# Altium footprint library Tray2.PcbLib: 104 footprints (part 1 of 7)
Each footprint in its own frame and in the unit in brackets; x right, y up, seen from the top. Pads: shape width x height; smd on the part's side, far side on the other; paste and mask are expansions set on the pad; w line width, h text height; cw(c..) or ccw(c..) is an arc to the next point about the centre after c.
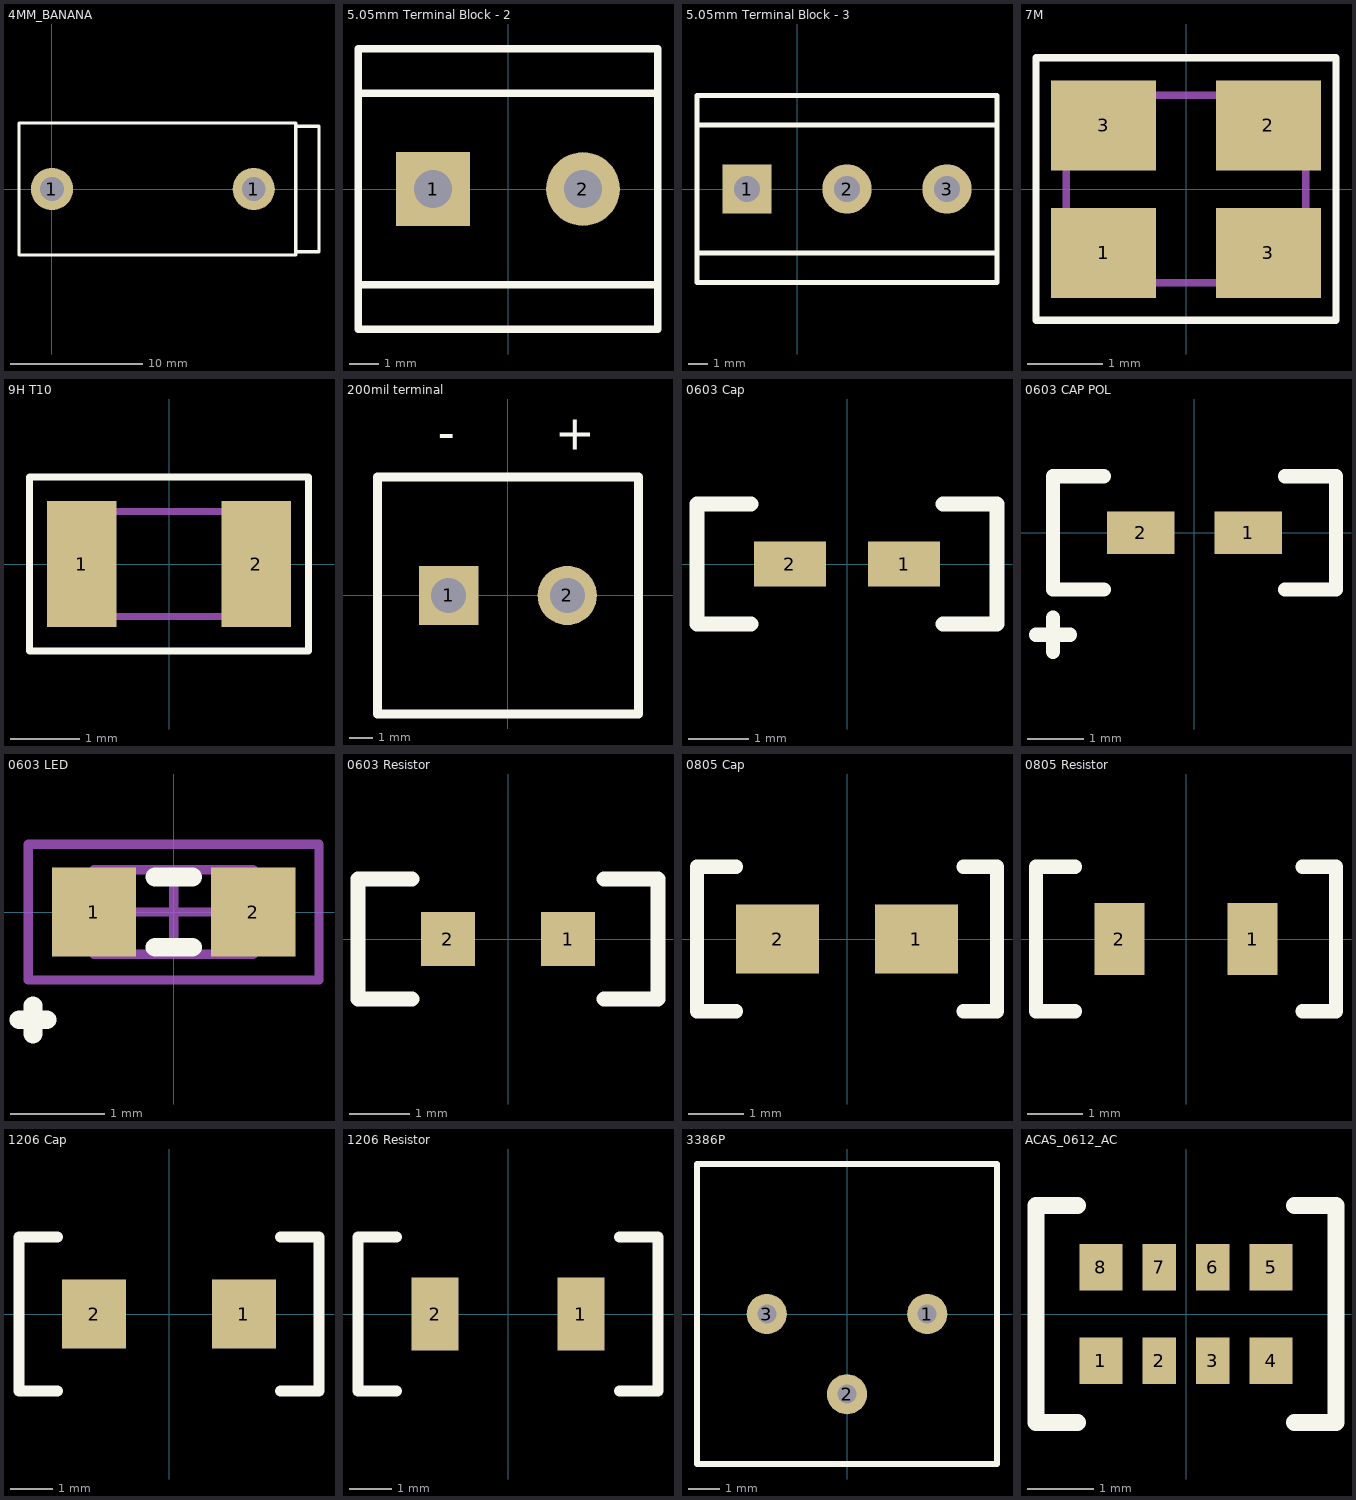
[diagram p0: the footprints below, top view; thin cyan lines are the x and y axes]

## 4MM_BANANA [mm] "DELTRON 571-0x00"
height 12.2
pads (2):
  round 3.2 hole 1.8: 1(0,0) 1(15.3,0)
Top Overlay:
  lines w0.254: 18.5,-4.75 20.25,-4.75 20.25,4.75 18.5,4.75 ; -2.5,-5 -2.5,5 17.5,5 18.5,5 18.5,-5 17.5,-5 -2.5,-5

## 5.05mm Terminal Block - 2 [mm]
pads (2):
  rect 2.5x2.5 hole 1.3: 1(-2.54,0)
  round 2.5 hole 1.3: 2(2.54,0)
Top Overlay:
  lines w0.254: -5.08,-3.25 5.08,-3.25 ; -5.08,3.25 5.08,3.25 ; -5.08,-4.75 -5.08,0 -5.08,4.75 5.08,4.75 5.08,0 5.08,-4.75 -5.08,-4.75

## 5.05mm Terminal Block - 3 [mm]
pads (3):
  rect 2.5x2.5 hole 1.3: 1(-2.54,0)
  round 2.5 hole 1.3: 2(2.54,0) 3(7.62,0)
Top Overlay:
  lines w0.254: -5.08,-3.25 10.16,-3.25 ; -5.08,3.25 7.06,3.25 10.16,3.25 ; -5.08,-4.75 -5.08,0 -5.08,4.75 10.16,4.75 10.16,0 10.16,-4.75 -5.08,-4.75

## 7M [mm]
pads (4):
  rect 1.4x1.2 smd: 1(-1.1,-0.85) 2(1.1,0.85) 3(-1.1,0.85) 3(1.1,-0.85)
Top Overlay:
  lines w0.1: -2,-1.75 -2,1.75 2,1.75 2,-1.75 -2,-1.75
Mechanical 13:
  lines w0.1: -1.6,-1.25 -1.6,1.25 1.6,1.25 1.6,-1.25 -1.6,-1.25
3D body: height 0.75, standoff 0.05, extent -1.6,-1.25 1.6,1.25

## 9H T10 [mm]
pads (2):
  rect 1x1.8 smd: 1(-1.25,0) 2(1.25,0)
Top Overlay:
  lines w0.1: -2,-1.25 2,-1.25 2,1.25 -2,1.25 -2,-1.25
Mechanical 13:
  lines w0.1: -1.6,-0.75 1.6,-0.75 1.6,0.75 -1.6,0.75 -1.6,-0.75
3D body: height 0.75, standoff 0.05, extent -1.6,-0.75 1.6,0.75

## 200mil terminal [mm]
height 5
pads (2):
  rect 2.54x2.54 hole 1.5: 1(-2.54,0)
  round 2.54 hole 1.5: 2(2.54,0)
Top Overlay:
  lines w0.381: -5.588,-5.08 -5.588,5.08 5.588,5.08 5.588,-5.08 0,-5.08 -5.588,-5.08
  text "-" at -3,6.25 h1.52
  text "+" at 2,6.25 h1.52

## 0603 Cap [mm] "0603 Capacitor"
pads (2):
  rect 1.2x0.75 smd: 1(0.95,0) 2(-0.95,0)
Top Overlay:
  lines w0.254: -1.6,-1 -2.5,-1 -2.5,1 -1.6,1 ; 1.6,-1 2.5,-1 2.5,1 1.6,1
3D body: height 0.9, standoff 0, extent -0.75,-0.375 0.75,0.375

## 0603 CAP POL [mm] "Polarised Capacitor, 0603"
pads (2):
  rect 1.2x0.75 smd: 1(0.95,0) 2(-0.95,0)
Top Overlay:
  lines w0.254: -2.8,-1.8 -2.2,-1.8 ; -2.5,-2.1 -2.5,-1.5 ; -1.6,-1 -2.5,-1 -2.5,1 -1.6,1 ; 1.6,-1 2.5,-1 2.5,1 1.6,1
3D body: height 0.9, standoff 0, extent -0.75,-0.375 0.75,0.375

## 0603 LED [mm] "Chip LED, 2-Leads, Body 1.6x0.8mm, IPC Medium Density"
height 0.4
pads (2):
  rect 0.9x0.95 smd: 1(-0.85,0) 2(0.85,0)
Top Overlay:
  lines w0.2: -1.65,-1.15 -1.35,-1.15 ; -1.5,-1.3 -1.5,-1 ; -0.2,-0.375 0.2,-0.375 ; -0.2,0.375 0.2,0.375
Mechanical 13:
  lines w0.1: -0.85,-0.45 0.85,-0.45 0.85,0.45 -0.85,0.45 -0.85,-0.45
Mechanical 15:
  lines w0.1: -0.45,0 0.45,0 ; 0,-0.45 0,0.45 ; -1.55,-0.725 1.55,-0.725 1.55,0.725 -1.55,0.725 -1.55,-0.725
3D body: height 0.4, standoff 0, extent -0.85,-0.45 0.85,0.45

## 0603 Resistor [mm] "0603 Resistor"
pads (2):
  rect 0.9x0.9 smd: 1(1,0) 2(-1,0)
Top Overlay:
  lines w0.254: -1.6,-1 -2.5,-1 -2.5,1 -1.6,1 ; 1.6,-1 2.5,-1 2.5,1 1.6,1
3D body: height 0.55, standoff 0, extent -0.8,-0.425 0.8,0.425

## 0805 Cap [mm] "0805 Capacitor"
pads (2):
  rect 1.5x1.25 smd: 1(1.25,0) 2(-1.25,0)
Top Overlay:
  lines w0.254: -2,-1.3 -2.7,-1.3 -2.7,1.3 -2,1.3 ; 2.1,-1.3 2.7,-1.3 2.7,1.3 2.1,1.3
3D body: height 0.9, standoff 0, extent -1,-0.625 1.1,0.625

## 0805 Resistor [mm] "0805 Resistor"
pads (2):
  rect 0.9x1.3 smd: 1(1.2,0) 2(-1.2,0)
Top Overlay:
  lines w0.254: -2,-1.3 -2.7,-1.3 -2.7,1.3 -2,1.3 ; 2.1,-1.3 2.7,-1.3 2.7,1.3 2.1,1.3
3D body: height 0.6, standoff 0, extent -1,-0.625 1.1,0.625

## 1206 Cap [mm] "1206 Capacitor"
pads (2):
  rect 1.5x1.6 smd: 1(1.75,0) 2(-1.75,0)
Top Overlay:
  lines w0.254: -2.6,-1.8 -3.5,-1.8 -3.5,1.8 -2.6,1.8 ; 2.6,-1.8 3.5,-1.8 3.5,1.8 2.6,1.8
3D body: height 1.8, standoff 0, extent -1.6,-0.8 1.6,0.8

## 1206 Resistor [mm] "1206 Resistor"
pads (2):
  rect 1.1x1.7 smd: 1(1.7,0) 2(-1.7,0)
Top Overlay:
  lines w0.254: -2.6,-1.8 -3.5,-1.8 -3.5,1.8 -2.6,1.8 ; 2.6,-1.8 3.5,-1.8 3.5,1.8 2.6,1.8
3D body: height 0.65, standoff 0, extent -1.6,-0.8 1.6,0.8

## 3386P [mm] "Trim Pot Bournes"
pads (3):
  round 1.27 hole 0.6: 1(2.54,0) 2(0,-2.54) 3(-2.54,0)
Top Overlay:
  lines w0.2: -4.75,-4.75 4.75,-4.75 4.75,4.75 -4.75,4.75 -4.75,-4.75
3D body: height 4.83, standoff 0, extent -4.75,-4.75 4.75,4.75

## ACAS_0612_AC [mm] "Resistor network"
pads (8):
  rect 0.65x0.7 smd: 1(-1.275,-0.7) 4(1.275,-0.7) 5(1.275,0.7) 8(-1.275,0.7)
  rect 0.5x0.7 smd: 2(-0.4,-0.7) 3(0.4,-0.7) 6(0.4,0.7) 7(-0.4,0.7)
Top Overlay:
  lines w0.254: -1.625,-1.625 -2.25,-1.625 -2.25,1.625 -1.625,1.625 ; 1.625,-1.625 2.25,-1.625 2.25,1.625 1.625,1.625